# Altium footprint library aiskylab-06IC-03Interface.PcbLib: 31 footprints (part 2 of 2)
Each footprint in its own frame and in the unit in brackets; x right, y up, seen from the top. Pads: shape width x height; smd on the part's side, far side on the other; paste and mask are expansions set on the pad; w line width, h text height; cw(c..) or ccw(c..) is an arc to the next point about the centre after c.
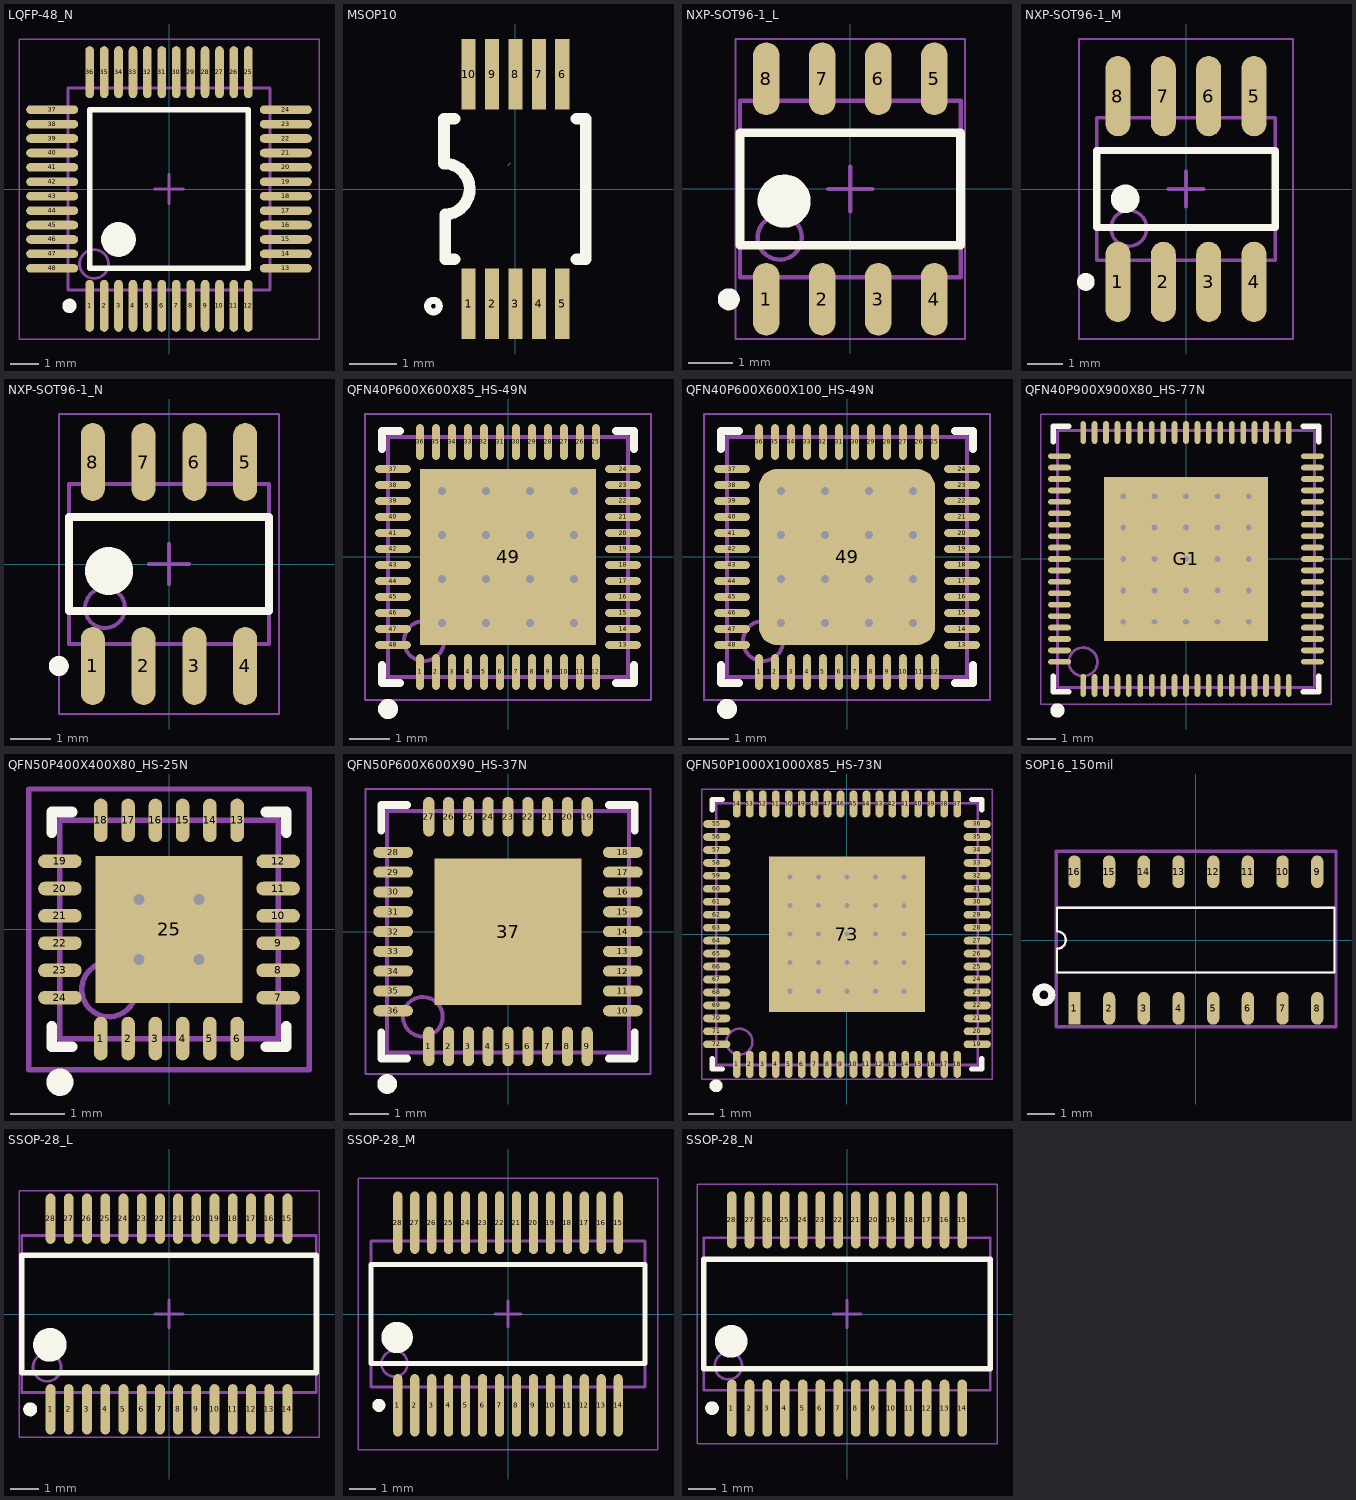
[diagram p1: the footprints below, top view; thin cyan lines are the x and y axes]

## LQFP-48_N [mm] "Thin QFP, 48-Leads, Body 7x7mm, Pitch 0.5mm, IPC Medium Density"
height 1.6
pads (48):
  oval 0.3x1.8 smd: 1(-2.75,-4.05) 2(-2.25,-4.05) 3(-1.75,-4.05) 4(-1.25,-4.05) 5(-0.75,-4.05) 6(-0.25,-4.05) 7(0.25,-4.05) 8(0.75,-4.05) 9(1.25,-4.05) 10(1.75,-4.05) 11(2.25,-4.05) 12(2.75,-4.05) 25(2.75,4.05) 26(2.25,4.05) 27(1.75,4.05) 28(1.25,4.05) 29(0.75,4.05) 30(0.25,4.05) 31(-0.25,4.05) 32(-0.75,4.05) 33(-1.25,4.05) 34(-1.75,4.05) 35(-2.25,4.05) 36(-2.75,4.05)
  oval 1.8x0.3 smd: 13(4.05,-2.75) 14(4.05,-2.25) 15(4.05,-1.75) 16(4.05,-1.25) 17(4.05,-0.75) 18(4.05,-0.25) 19(4.05,0.25) 20(4.05,0.75) 21(4.05,1.25) 22(4.05,1.75) 23(4.05,2.25) 24(4.05,2.75) 37(-4.05,2.75) 38(-4.05,2.25) 39(-4.05,1.75) 40(-4.05,1.25) 41(-4.05,0.75) 42(-4.05,0.25) 43(-4.05,-0.25) 44(-4.05,-0.75) 45(-4.05,-1.25) 46(-4.05,-1.75) 47(-4.05,-2.25) 48(-4.05,-2.75)
Top Overlay:
  circle w0.6: c-1.75,-1.75 r0.3
  circle w0.25: c-3.45,-4.05 r0.125
  lines w0.2: -2.75,-2.75 -2.75,2.75 2.75,2.75 2.75,-2.75 -2.75,-2.75
Top Designator:
  text ".Designator" at -7.618,-0.508 h1.52
Top Assembly:
  circle w0.1: c-2.6,-2.6 r0.5
  lines w0.1: -3.5,-3.5 3.5,-3.5 3.5,3.5 -3.5,3.5 -3.5,-3.5
Top Component Center:
  lines w0.1: -0.5,0 0.5,0 ; 0,-0.5 0,0.5
Top Component Outline:
  lines w0.05: -5.2,-5.2 5.2,-5.2 5.2,5.2 -5.2,5.2 -5.2,-5.2
3D body "LQFP-48-7x7mm.STEP": height 1.55, standoff 0, extent -4.511,-4.51 4.51,4.511

## MSOP10 [mil]
pads (10):
  rect 12x59.06 smd: 1(-39.37,-96.5) 2(-19.68,-96.5) 3(0,-96.5) 4(19.69,-96.5) 5(39.37,-96.5) 6(39.37,96.5) 7(19.69,96.5) 8(0,96.5) 9(-19.68,96.5) 10(-39.37,96.5)
Top Overlay:
  lines w5.91: -68.95,-93.5 ccw(c-68.9,-98.43) -68.85,-93.5
  lines w10: -51.19,-59.05 -59,-59.05 -59,-21.5 ccw(c-59.92,-0.01) -60,21.5 -60,59.05 -51.19,59.05 ; 51.19,-59.05 59.05,-59.05 59.05,59.05 51.19,59.05
Top Designator:
  text ".Designator" at -306.26,-19.99 h60
Bottom 3D Body:
  lines w0.1: -5.88,19.99 -3.88,21.99
3D body: height 59.06, standoff 0, extent -60,-59 61,60

## NXP-SOT96-1_L [mm] "SOIC, 8-Leads, Body 5x4mm, Pitch 1.27mm, IPC High Density"
height 1.75
pads (8):
  oval 0.6x1.65 smd: 1(-1.905,-2.5) 2(-0.635,-2.5) 3(0.635,-2.5) 4(1.905,-2.5) 5(1.905,2.5) 6(0.635,2.5) 7(-0.635,2.5) 8(-1.905,2.5)
Top Overlay:
  circle w0.6: c-1.5,-0.275 r0.3
  circle w0.25: c-2.755,-2.5 r0.125
  lines w0.2: -2.5,-1.275 -2.5,1.275 2.5,1.275 2.5,-1.275 -2.5,-1.275
Top Designator:
  text ".Designator" at -7.808,-0.508 h1.52
Top Assembly:
  circle w0.1: c-1.6,-1.1 r0.5
  lines w0.1: -2.5,-2 -2.5,2 2.5,2 2.5,-2 -2.5,-2
Top Component Center:
  lines w0.1: -0.5,0 0.5,0 ; 0,-0.5 0,0.5
Top Component Outline:
  lines w0.05: -2.6,-3.4 -2.6,3.4 2.6,3.4 2.6,-3.4 -2.6,-3.4
3D body "SO-8.STEP": height 1.5, standoff 0, extent -2.45,-3.014 2.45,3.014

## NXP-SOT96-1_M [mm] "SOIC, 8-Leads, Body 5x4mm, Pitch 1.27mm, IPC Low Density"
height 1.75
pads (8):
  oval 0.7x2.25 smd: 1(-1.905,-2.6) 2(-0.635,-2.6) 3(0.635,-2.6) 4(1.905,-2.6) 5(1.905,2.6) 6(0.635,2.6) 7(-0.635,2.6) 8(-1.905,2.6)
Top Overlay:
  circle w0.4: c-1.7,-0.275 r0.2
  circle w0.25: c-2.805,-2.6 r0.125
  lines w0.2: -2.5,-1.075 -2.5,1.075 2.5,1.075 2.5,-1.075 -2.5,-1.075
Top Designator:
  text ".Designator" at -7.633,-0.508 h1.52
Top Assembly:
  circle w0.1: c-1.6,-1.1 r0.5
  lines w0.1: -2.5,-2 -2.5,2 2.5,2 2.5,-2 -2.5,-2
Top Component Center:
  lines w0.1: -0.5,0 0.5,0 ; 0,-0.5 0,0.5
Top Component Outline:
  lines w0.05: -3,-4.2 -3,4.2 3,4.2 3,-4.2 -3,-4.2
3D body "SO-8.STEP": height 1.5, standoff 0, extent -2.45,-3.014 2.45,3.014

## NXP-SOT96-1_N [mm] "SOIC, 8-Leads, Body 5x4mm, Pitch 1.27mm, IPC Medium Density"
height 1.75
pads (8):
  oval 0.6x1.95 smd: 1(-1.905,-2.55) 2(-0.635,-2.55) 3(0.635,-2.55) 4(1.905,-2.55) 5(1.905,2.55) 6(0.635,2.55) 7(-0.635,2.55) 8(-1.905,2.55)
Top Overlay:
  circle w0.6: c-1.5,-0.175 r0.3
  circle w0.25: c-2.755,-2.55 r0.125
  lines w0.2: -2.5,-1.175 -2.5,1.175 2.5,1.175 2.5,-1.175 -2.5,-1.175
Top Designator:
  text ".Designator" at -7.733,-0.508 h1.52
Top Assembly:
  circle w0.1: c-1.6,-1.1 r0.5
  lines w0.1: -2.5,-2 2.5,-2 2.5,2 -2.5,2 -2.5,-2
Top Component Center:
  lines w0.1: -0.5,0 0.5,0 ; 0,-0.5 0,0.5
Top Component Outline:
  lines w0.05: -2.75,-3.75 2.75,-3.75 2.75,3.75 -2.75,3.75 -2.75,-3.75
3D body "SO-8.STEP": height 1.5, standoff 0, extent -2.45,-3.014 2.45,3.014

## QFN40P600X600X85_HS-49N [mm] "QFN, 48-Leads, Body 6.00x6.00mm, Pitch 0.40mm, Thermal Pad 4.40x4.40mm, IPC Medium Density"
height 0.85
pads (49):
  oval 0.2x0.9 smd: 1(-2.2,-2.875) 2(-1.8,-2.875) 3(-1.4,-2.875) 4(-1,-2.875) 5(-0.6,-2.875) 6(-0.2,-2.875) 7(0.2,-2.875) 8(0.6,-2.875) 9(1,-2.875) 10(1.4,-2.875) 11(1.8,-2.875) 12(2.2,-2.875) 25(2.2,2.875) 26(1.8,2.875) 27(1.4,2.875) 28(1,2.875) 29(0.6,2.875) 30(0.2,2.875) 31(-0.2,2.875) 32(-0.6,2.875) 33(-1,2.875) 34(-1.4,2.875) 35(-1.8,2.875) 36(-2.2,2.875)
  oval 0.9x0.2 smd: 13(2.875,-2.2) 14(2.875,-1.8) 15(2.875,-1.4) 16(2.875,-1) 17(2.875,-0.6) 18(2.875,-0.2) 19(2.875,0.2) 20(2.875,0.6) 21(2.875,1) 22(2.875,1.4) 23(2.875,1.8) 24(2.875,2.2) 37(-2.875,2.2) 38(-2.875,1.8) 39(-2.875,1.4) 40(-2.875,1) 41(-2.875,0.6) 42(-2.875,0.2) 43(-2.875,-0.2) 44(-2.875,-0.6) 45(-2.875,-1) 46(-2.875,-1.4) 47(-2.875,-1.8) 48(-2.875,-2.2)
  rect 4.4x4.4 smd: 49(0,0)
via 1.65,1.65 diameter 0.5 hole 0.2
via 1.65,0.55 diameter 0.5 hole 0.2
via 1.65,-0.55 diameter 0.5 hole 0.2
via 1.65,-1.65 diameter 0.5 hole 0.2
via 0.55,1.65 diameter 0.5 hole 0.2
via 0.55,0.55 diameter 0.5 hole 0.2
via 0.55,-0.55 diameter 0.5 hole 0.2
via 0.55,-1.65 diameter 0.5 hole 0.2
via -0.55,1.65 diameter 0.5 hole 0.2
via -0.55,0.55 diameter 0.5 hole 0.2
via -0.55,-0.55 diameter 0.5 hole 0.2
via -0.55,-1.65 diameter 0.5 hole 0.2
via -1.65,1.65 diameter 0.5 hole 0.2
via -1.65,0.55 diameter 0.5 hole 0.2
via -1.65,-0.55 diameter 0.5 hole 0.2
via -1.65,-1.65 diameter 0.5 hole 0.2
Top Overlay:
  circle w0.25: c-3,-3.8 r0.125
  lines w0.2: -3.15,-2.7 -3.15,-3.15 -2.7,-3.15 ; -3.15,2.7 -3.15,3.15 -2.7,3.15 ; 2.7,-3.15 3.15,-3.15 3.15,-2.7 ; 2.7,3.15 3.15,3.15 3.15,2.7
Top Designator:
  text ".Designator" at -7.618,-0.733 h1.52
Top Assembly:
  circle w0.1: c-2.1,-2.1 r0.5
  lines w0.1: -3,-3 -3,3 3,3 3,-3 -3,-3
Top Component Center:
  lines w0.1: -0.5,0 0.5,0 ; 0,-0.5 0,0.5
Top Component Outline:
  lines w0.05: -3.575,-3.575 3.575,-3.575 3.575,3.575 -3.575,3.575 -3.575,-3.575
3D body "QFN40P600X600X85_HS-49N.step": height 0.85, standoff 0, extent -3.02,-3.02 3.02,3.02

## QFN40P600X600X100_HS-49N [mm] "QFN, 48-Leads, Body 6.00x6.00mm, Pitch 0.40mm, Thermal Pad 4.40x4.40mm, IPC Medium Density"
height 1
pads (49):
  oval 0.2x0.9 smd: 1(-2.2,-2.875) 2(-1.8,-2.875) 3(-1.4,-2.875) 4(-1,-2.875) 5(-0.6,-2.875) 6(-0.2,-2.875) 7(0.2,-2.875) 8(0.6,-2.875) 9(1,-2.875) 10(1.4,-2.875) 11(1.8,-2.875) 12(2.2,-2.875) 25(2.2,2.875) 26(1.8,2.875) 27(1.4,2.875) 28(1,2.875) 29(0.6,2.875) 30(0.2,2.875) 31(-0.2,2.875) 32(-0.6,2.875) 33(-1,2.875) 34(-1.4,2.875) 35(-1.8,2.875) 36(-2.2,2.875)
  oval 0.9x0.2 smd: 13(2.875,-2.2) 14(2.875,-1.8) 15(2.875,-1.4) 16(2.875,-1) 17(2.875,-0.6) 18(2.875,-0.2) 19(2.875,0.2) 20(2.875,0.6) 21(2.875,1) 22(2.875,1.4) 23(2.875,1.8) 24(2.875,2.2) 37(-2.875,2.2) 38(-2.875,1.8) 39(-2.875,1.4) 40(-2.875,1) 41(-2.875,0.6) 42(-2.875,0.2) 43(-2.875,-0.2) 44(-2.875,-0.6) 45(-2.875,-1) 46(-2.875,-1.4) 47(-2.875,-1.8) 48(-2.875,-2.2)
  rrect20% 4.4x4.4 smd: 49(0,0)
via 1.65,1.65 diameter 0.5 hole 0.2
via 1.65,0.55 diameter 0.5 hole 0.2
via 1.65,-0.55 diameter 0.5 hole 0.2
via 1.65,-1.65 diameter 0.5 hole 0.2
via 0.55,1.65 diameter 0.5 hole 0.2
via 0.55,0.55 diameter 0.5 hole 0.2
via 0.55,-0.55 diameter 0.5 hole 0.2
via 0.55,-1.65 diameter 0.5 hole 0.2
via -0.55,1.65 diameter 0.5 hole 0.2
via -0.55,0.55 diameter 0.5 hole 0.2
via -0.55,-0.55 diameter 0.5 hole 0.2
via -0.55,-1.65 diameter 0.5 hole 0.2
via -1.65,1.65 diameter 0.5 hole 0.2
via -1.65,0.55 diameter 0.5 hole 0.2
via -1.65,-0.55 diameter 0.5 hole 0.2
via -1.65,-1.65 diameter 0.5 hole 0.2
Top Overlay:
  circle w0.25: c-3,-3.8 r0.125
  lines w0.2: -3.15,-2.7 -3.15,-3.15 -2.7,-3.15 ; -3.15,2.7 -3.15,3.15 -2.7,3.15 ; 2.7,-3.15 3.15,-3.15 3.15,-2.7 ; 2.7,3.15 3.15,3.15 3.15,2.7
Top Designator:
  text ".Designator" at -7.618,-0.733 h1.52
Top Assembly:
  circle w0.1: c-2.1,-2.1 r0.5
  lines w0.1: -3,-3 -3,3 3,3 3,-3 -3,-3
Top Component Center:
  lines w0.1: -0.5,0 0.5,0 ; 0,-0.5 0,0.5
Top Component Outline:
  lines w0.05: -3.575,-3.575 -3.575,3.575 3.575,3.575 3.575,-3.575 -3.575,-3.575
3D body "QFN40P600X600X100_HS-49N.step": height 1, standoff 0, extent -3.02,-3.02 3.02,3.02

## QFN40P900X900X80_HS-77N [mm] "QFN, 76-Leads, Body 9.00x9.00mm, Pitch 0.40mm, Thermal Pad 5.75x5.75mm, IPC Medium Density"
height 0.8
pads (77):
  oval 0.2x0.8 smd: 1(-3.6,-4.425) 2(-3.2,-4.425) 3(-2.8,-4.425) 4(-2.4,-4.425) 5(-2,-4.425) 6(-1.6,-4.425) 7(-1.2,-4.425) 8(-0.8,-4.425) 9(-0.4,-4.425) 10(0,-4.425) 11(0.4,-4.425) 12(0.8,-4.425) 13(1.2,-4.425) 14(1.6,-4.425) 15(2,-4.425) 16(2.4,-4.425) 17(2.8,-4.425) 18(3.2,-4.425) 19(3.6,-4.425) 39(3.6,4.425) 40(3.2,4.425) 41(2.8,4.425) 42(2.4,4.425) 43(2,4.425) 44(1.6,4.425) 45(1.2,4.425) 46(0.8,4.425) 47(0.4,4.425) 48(0,4.425) 49(-0.4,4.425) 50(-0.8,4.425) 51(-1.2,4.425) 52(-1.6,4.425) 53(-2,4.425) 54(-2.4,4.425) 55(-2.8,4.425) 56(-3.2,4.425) 57(-3.6,4.425)
  oval 0.8x0.2 smd: 20(4.425,-3.6) 21(4.425,-3.2) 22(4.425,-2.8) 23(4.425,-2.4) 24(4.425,-2) 25(4.425,-1.6) 26(4.425,-1.2) 27(4.425,-0.8) 28(4.425,-0.4) 29(4.425,0) 30(4.425,0.4) 31(4.425,0.8) 32(4.425,1.2) 33(4.425,1.6) 34(4.425,2) 35(4.425,2.4) 36(4.425,2.8) 37(4.425,3.2) 38(4.425,3.6) 58(-4.425,3.6) 59(-4.425,3.2) 60(-4.425,2.8) 61(-4.425,2.4) 62(-4.425,2) 63(-4.425,1.6) 64(-4.425,1.2) 65(-4.425,0.8) 66(-4.425,0.4) 67(-4.425,0) 68(-4.425,-0.4) 69(-4.425,-0.8) 70(-4.425,-1.2) 71(-4.425,-1.6) 72(-4.425,-2) 73(-4.425,-2.4) 74(-4.425,-2.8) 75(-4.425,-3.2) 76(-4.425,-3.6)
  rect 5.75x5.75 smd: G1(0,0)
via -2.2,-2.2 diameter 0.5 hole 0.2
via -2.2,-1.1 diameter 0.5 hole 0.2
via -2.2,0 diameter 0.5 hole 0.2
via -2.2,1.1 diameter 0.5 hole 0.2
via -2.2,2.2 diameter 0.5 hole 0.2
via -1.1,-2.2 diameter 0.5 hole 0.2
via -1.1,-1.1 diameter 0.5 hole 0.2
via -1.1,0 diameter 0.5 hole 0.2
via -1.1,1.1 diameter 0.5 hole 0.2
via -1.1,2.2 diameter 0.5 hole 0.2
via 0,-2.2 diameter 0.5 hole 0.2
via 0,-1.1 diameter 0.5 hole 0.2
via 0,0 diameter 0.5 hole 0.2
via 0,1.1 diameter 0.5 hole 0.2
via 0,2.2 diameter 0.5 hole 0.2
via 1.1,-2.2 diameter 0.5 hole 0.2
via 1.1,-1.1 diameter 0.5 hole 0.2
via 1.1,0 diameter 0.5 hole 0.2
via 1.1,1.1 diameter 0.5 hole 0.2
via 1.1,2.2 diameter 0.5 hole 0.2
via 2.2,-2.2 diameter 0.5 hole 0.2
via 2.2,-1.1 diameter 0.5 hole 0.2
via 2.2,0 diameter 0.5 hole 0.2
via 2.2,1.1 diameter 0.5 hole 0.2
via 2.2,2.2 diameter 0.5 hole 0.2
Top Overlay:
  circle w0.25: c-4.5,-5.3 r0.125
  lines w0.2: -4.65,-4.1 -4.65,-4.65 -4.1,-4.65 ; -4.65,4.1 -4.65,4.65 -4.1,4.65 ; 4.1,-4.65 4.65,-4.65 4.65,-4.1 ; 4.1,4.65 4.65,4.65 4.65,4.1
Top Designator:
  text ".Designator" at -7.618,-0.733 h1.52
Top Assembly:
  circle w0.1: c-3.6,-3.6 r0.5
  lines w0.1: -4.5,-4.5 -4.5,4.5 4.5,4.5 4.5,-4.5 -4.5,-4.5
Top Component Center:
  lines w0.1: -0.5,0 0.5,0 ; 0,-0.5 0,0.5
Top Component Outline:
  lines w0.05: -5.075,-5.075 -5.075,5.075 5.075,5.075 5.075,-5.075 -5.075,-5.075
Top 3D Body:
  circle w0.1: c-3.6,-3.6 r0.5
  lines w0.1: -4.5,-4.5 -4.5,4.5 4.5,4.5 4.5,-4.5 -4.5,-4.5
3D body "QFN40P900X900X80_HS-77N.step": height 0.8, standoff 0, extent -4.535,-4.535 4.535,4.535

## QFN50P400X400X80_HS-25N [mm] "QFN, 24-Leads, Body 4.00x4.00mm, Pitch 0.50mm, Thermal Pad 2.70x2.70mm, IPC Medium Density"
height 0.8
pads (25):
  oval 0.25x0.8 smd: 1(-1.25,-2) 2(-0.75,-2) 3(-0.25,-2) 4(0.25,-2) 5(0.75,-2) 6(1.25,-2) 13(1.25,2) 14(0.75,2) 15(0.25,2) 16(-0.25,2) 17(-0.75,2) 18(-1.25,2)
  oval 0.8x0.25 smd: 7(2,-1.25) 8(2,-0.75) 9(2,-0.25) 10(2,0.25) 11(2,0.75) 12(2,1.25) 19(-2,1.25) 20(-2,0.75) 21(-2,0.25) 22(-2,-0.25) 23(-2,-0.75) 24(-2,-1.25)
  rect 2.7x2.7 smd: 25(0,0)
via 0.55,0.55 diameter 0.5 hole 0.2
via 0.55,-0.55 diameter 0.5 hole 0.2
via -0.55,0.55 diameter 0.5 hole 0.2
via -0.55,-0.55 diameter 0.5 hole 0.2
Top Overlay:
  circle w0.25: c-2,-2.8 r0.125
  lines w0.2: -2.15,-1.775 -2.15,-2.15 -1.775,-2.15 ; -2.15,1.775 -2.15,2.15 -1.775,2.15 ; 1.775,-2.15 2.15,-2.15 2.15,-1.775 ; 1.775,2.15 2.15,2.15 2.15,1.775
Top Designator:
  text ".Designator" at -7.618,-0.72 h1.52
Top Assembly:
  circle w0.1: c-1.1,-1.1 r0.5
  lines w0.1: -2,-2 2,-2 2,2 -2,2 -2,-2
Top Component Center:
  lines w0.1: -0.5,0 0.5,0 -0.5,0 ; 0,-0.5 0,0.5 0,-0.5
Top Component Outline:
  lines w0.05: -2.575,-2.575 -2.575,2.575 2.575,2.575 2.575,-2.575 -2.575,-2.575
Top 3D Body:
  circle w0.1: c-1.1,-1.1 r0.5
  lines w0.1: -2.575,-2.575 2.575,-2.575 2.575,2.575 -2.575,2.575 -2.575,-2.575 ; -2,-2 2,-2 2,2 -2,2 -2,-2
3D body "QFN50P400X400X80_HS-25N.step": height 0.8, standoff 0, extent -2.01,-2.01 2.01,2.01

## QFN50P600X600X90_HS-37N [mm]
pads (37):
  oval 0.28x1 smd: 1(-2,-2.9) 2(-1.5,-2.9) 3(-1,-2.9) 4(-0.5,-2.9) 5(0,-2.9) 6(0.5,-2.9) 7(1,-2.9) 8(1.5,-2.9) 9(2,-2.9) 19(2,2.9) 20(1.5,2.9) 21(1,2.9) 22(0.5,2.9) 23(0,2.9) 24(-0.5,2.9) 25(-1,2.9) 26(-1.5,2.9) 27(-2,2.9)
  oval 1x0.28 smd: 10(2.9,-2) 11(2.9,-1.5) 12(2.9,-1) 13(2.9,-0.5) 14(2.9,0) 15(2.9,0.5) 16(2.9,1) 17(2.9,1.5) 18(2.9,2) 28(-2.9,2) 29(-2.9,1.5) 30(-2.9,1) 31(-2.9,0.5) 32(-2.9,0) 33(-2.9,-0.5) 34(-2.9,-1) 35(-2.9,-1.5) 36(-2.9,-2)
  rect 3.7x3.7 smd: 37(0,0)
Top Overlay:
  circle w0.25: c-3.05,-3.85 r0.125
  lines w0.2: -3.2,-2.55 -3.2,-3.2 -2.55,-3.2 ; -3.2,2.55 -3.2,3.2 -2.55,3.2 ; 2.55,-3.2 3.2,-3.2 3.2,-2.55 ; 2.55,3.2 3.2,3.2 3.2,2.55
Top Designator:
  text ".Designator" at -7.618,-0.745 h1.52
Top Assembly:
  circle w0.1: c-2.15,-2.15 r0.5
  lines w0.1: -3.05,-3.05 3.05,-3.05 3.05,3.05 -3.05,3.05 -3.05,-3.05
Top Component Outline:
  lines w0.05: -3.6,-3.6 3.6,-3.6 3.6,3.6 -3.6,3.6 -3.6,-3.6
3D body "QFN50P600X600X90_HS-37N.step": height 0.9, standoff 0, extent -3.13,-3.13 3.13,3.13

## QFN50P1000X1000X85_HS-73N [mm] "QFN, 72-Leads, Body 10.00x10.00mm, Pitch 0.50mm, Thermal Pad 6.00x6.00mm, IPC Medium Density"
height 0.85
pads (73):
  oval 0.3x1.05 smd: 1(-4.25,-5.025) 2(-3.75,-5.025) 3(-3.25,-5.025) 4(-2.75,-5.025) 5(-2.25,-5.025) 6(-1.75,-5.025) 7(-1.25,-5.025) 8(-0.75,-5.025) 9(-0.25,-5.025) 10(0.25,-5.025) 11(0.75,-5.025) 12(1.25,-5.025) 13(1.75,-5.025) 14(2.25,-5.025) 15(2.75,-5.025) 16(3.25,-5.025) 17(3.75,-5.025) 18(4.25,-5.025) 37(4.25,5.025) 38(3.75,5.025) 39(3.25,5.025) 40(2.75,5.025) 41(2.25,5.025) 42(1.75,5.025) 43(1.25,5.025) 44(0.75,5.025) 45(0.25,5.025) 46(-0.25,5.025) 47(-0.75,5.025) 48(-1.25,5.025) 49(-1.75,5.025) 50(-2.25,5.025) 51(-2.75,5.025) 52(-3.25,5.025) 53(-3.75,5.025) 54(-4.25,5.025)
  oval 1.05x0.3 smd: 19(5.025,-4.25) 20(5.025,-3.75) 21(5.025,-3.25) 22(5.025,-2.75) 23(5.025,-2.25) 24(5.025,-1.75) 25(5.025,-1.25) 26(5.025,-0.75) 27(5.025,-0.25) 28(5.025,0.25) 29(5.025,0.75) 30(5.025,1.25) 31(5.025,1.75) 32(5.025,2.25) 33(5.025,2.75) 34(5.025,3.25) 35(5.025,3.75) 36(5.025,4.25) 55(-5.025,4.25) 56(-5.025,3.75) 57(-5.025,3.25) 58(-5.025,2.75) 59(-5.025,2.25) 60(-5.025,1.75) 61(-5.025,1.25) 62(-5.025,0.75) 63(-5.025,0.25) 64(-5.025,-0.25) 65(-5.025,-0.75) 66(-5.025,-1.25) 67(-5.025,-1.75) 68(-5.025,-2.25) 69(-5.025,-2.75) 70(-5.025,-3.25) 71(-5.025,-3.75) 72(-5.025,-4.25)
  rect 6x6 smd: 73(0,0)
via -2.2,-2.2 diameter 0.5 hole 0.2
via -2.2,-1.1 diameter 0.5 hole 0.2
via -2.2,0 diameter 0.5 hole 0.2
via -2.2,1.1 diameter 0.5 hole 0.2
via -2.2,2.2 diameter 0.5 hole 0.2
via -1.1,-2.2 diameter 0.5 hole 0.2
via -1.1,-1.1 diameter 0.5 hole 0.2
via -1.1,0 diameter 0.5 hole 0.2
via -1.1,1.1 diameter 0.5 hole 0.2
via -1.1,2.2 diameter 0.5 hole 0.2
via 0,-2.2 diameter 0.5 hole 0.2
via 0,-1.1 diameter 0.5 hole 0.2
via 0,0 diameter 0.5 hole 0.2
via 0,1.1 diameter 0.5 hole 0.2
via 0,2.2 diameter 0.5 hole 0.2
via 1.1,-2.2 diameter 0.5 hole 0.2
via 1.1,-1.1 diameter 0.5 hole 0.2
via 1.1,0 diameter 0.5 hole 0.2
via 1.1,1.1 diameter 0.5 hole 0.2
via 1.1,2.2 diameter 0.5 hole 0.2
via 2.2,-2.2 diameter 0.5 hole 0.2
via 2.2,-1.1 diameter 0.5 hole 0.2
via 2.2,0 diameter 0.5 hole 0.2
via 2.2,1.1 diameter 0.5 hole 0.2
via 2.2,2.2 diameter 0.5 hole 0.2
Top Overlay:
  circle w0.25: c-5.05,-5.85 r0.125
  lines w0.2: -5.2,-4.8 -5.2,-5.2 -4.8,-5.2 ; -5.2,4.8 -5.2,5.2 -4.8,5.2 ; 4.8,-5.2 5.2,-5.2 5.2,-4.8 ; 4.8,5.2 5.2,5.2 5.2,4.8
Top Designator:
  text ".Designator" at -7.618,-0.732 h1.52
Top Assembly:
  circle w0.1: c-4.15,-4.15 r0.5
  lines w0.1: -5.05,-5.05 -5.05,5.05 5.05,5.05 5.05,-5.05 -5.05,-5.05
Top Component Center:
  lines w0.1: -0.5,0 0.5,0 ; 0,-0.5 0,0.5
Top Component Outline:
  lines w0.05: -5.6,-5.6 5.6,-5.6 5.6,5.6 -5.6,5.6 -5.6,-5.6
Top 3D Body:
  circle w0.1: c-4.15,-4.15 r0.5
  lines w0.1: -5.05,-5.05 -5.05,5.05 5.05,5.05 5.05,-5.05 -5.05,-5.05
Bottom 3D Body:
  lines w0.05: -5.6,-5.6 5.6,-5.6 5.6,5.6 -5.6,5.6 -5.6,-5.6
  lines w0.1: -0.5,0 0.5,0 ; 0,-0.5 0,0.5
3D body "QFN50P1000X1000X85_HS-73N.step": height 0.85, standoff 0, extent -5.07,-5.07 5.07,5.07

## SOP16_150mil [mm]
pads (16):
  rect 0.45x1.2 smd: 1(-4.445,-2.5)
  oval 0.45x1.2 smd: 2(-3.175,-2.5) 3(-1.905,-2.5) 4(-0.635,-2.5) 5(0.635,-2.5) 6(1.905,-2.5) 7(3.175,-2.5) 8(4.445,-2.5) 9(4.445,2.5) 10(3.175,2.5) 11(1.905,2.5) 12(0.635,2.5) 13(-0.635,2.5) 14(-1.905,2.5) 15(-3.175,2.5) 16(-4.445,2.5)
Top Overlay:
  circle w0.254: c-5.563,-2.007 r0.29
  lines w0.08: -5.08,-1.185 -5.08,-0.318 ccw(c-5.08,0) -5.08,0.318 -5.08,1.185 5.08,1.185 5.08,-1.185 -5.08,-1.185
Top Designator:
  text ".Designator" at -8.01,-0.47 h1.52
Top Assembly:
  circle w0.254: c-5.563,-2.007 r0.29
  lines w0.08: -5.08,-1.185 -5.08,-0.318 ccw(c-5.08,0) -5.08,0.318 -5.08,1.185 5.08,1.185 5.08,-1.185 -5.08,-1.185
Top Component Outline:
  lines w0.127: -5.105,-3.175 -5.105,3.251 5.131,3.251 5.131,-3.175 -5.105,-3.175
Top 3D Body:
  lines w0.127: -5.105,-3.175 -5.105,3.251 5.131,3.251 5.131,-3.175 -5.105,-3.175
3D body "User Library-SOP16.step": height 1.59, standoff 0, extent -4.99,-3.077 4.991,3.158

## SSOP-28_L [mm] "SOP, 28-Leads, Body 10.2x5.3mm, Pitch 0.65mm, IPC High Density"
height 2
pads (28):
  oval 0.35x1.8 smd: 1(-4.225,-3.4) 2(-3.575,-3.4) 3(-2.925,-3.4) 4(-2.275,-3.4) 5(-1.625,-3.4) 6(-0.975,-3.4) 7(-0.325,-3.4) 8(0.325,-3.4) 9(0.975,-3.4) 10(1.625,-3.4) 11(2.275,-3.4) 12(2.925,-3.4) 13(3.575,-3.4) 14(4.225,-3.4) 15(4.225,3.4) 16(3.575,3.4) 17(2.925,3.4) 18(2.275,3.4) 19(1.625,3.4) 20(0.975,3.4) 21(0.325,3.4) 22(-0.325,3.4) 23(-0.975,3.4) 24(-1.625,3.4) 25(-2.275,3.4) 26(-2.925,3.4) 27(-3.575,3.4) 28(-4.225,3.4)
Top Overlay:
  circle w0.6: c-4.25,-1.1 r0.3
  circle w0.25: c-4.95,-3.4 r0.125
  lines w0.2: -5.25,-2.1 -5.25,2.1 5.25,2.1 5.25,-2.1 -5.25,-2.1
Top Designator:
  text ".Designator" at -7.618,-0.508 h1.52
Top Assembly:
  circle w0.1: c-4.35,-1.9 r0.5
  lines w0.1: -5.25,-2.8 5.25,-2.8 5.25,2.8 -5.25,2.8 -5.25,-2.8
Top Component Center:
  lines w0.1: -0.5,0 0.5,0 ; 0,-0.5 0,0.5
Top Component Outline:
  lines w0.05: -5.35,-4.4 5.35,-4.4 5.35,4.4 -5.35,4.4 -5.35,-4.4
3D body "HTSSOP28.STEP": height 1.1, standoff 0, extent -4.85,-3.21 4.85,3.211

## SSOP-28_M [mm] "SOP, 28-Leads, Body 10.2x5.3mm, Pitch 0.65mm, IPC Low Density"
height 2
pads (28):
  oval 0.35x2.4 smd: 1(-4.225,-3.5) 2(-3.575,-3.5) 3(-2.925,-3.5) 4(-2.275,-3.5) 5(-1.625,-3.5) 6(-0.975,-3.5) 7(-0.325,-3.5) 8(0.325,-3.5) 9(0.975,-3.5) 10(1.625,-3.5) 11(2.275,-3.5) 12(2.925,-3.5) 13(3.575,-3.5) 14(4.225,-3.5) 15(4.225,3.5) 16(3.575,3.5) 17(2.925,3.5) 18(2.275,3.5) 19(1.625,3.5) 20(0.975,3.5) 21(0.325,3.5) 22(-0.325,3.5) 23(-0.975,3.5) 24(-1.625,3.5) 25(-2.275,3.5) 26(-2.925,3.5) 27(-3.575,3.5) 28(-4.225,3.5)
Top Overlay:
  circle w0.6: c-4.25,-0.9 r0.3
  circle w0.25: c-4.95,-3.5 r0.125
  lines w0.2: -5.25,-1.9 -5.25,1.9 5.25,1.9 5.25,-1.9 -5.25,-1.9
Top Designator:
  text ".Designator" at -7.618,-0.508 h1.52
Top Assembly:
  circle w0.1: c-4.35,-1.9 r0.5
  lines w0.1: -5.25,-2.8 -5.25,2.8 5.25,2.8 5.25,-2.8 -5.25,-2.8
Top Component Center:
  lines w0.1: -0.5,0 0.5,0 ; 0,-0.5 0,0.5
Top Component Outline:
  lines w0.05: -5.75,-5.2 -5.75,5.2 5.75,5.2 5.75,-5.2 -5.75,-5.2
3D body "HTSSOP28.STEP": height 1.1, standoff 0, extent -4.85,-3.21 4.85,3.211

## SSOP-28_N [mm] "SOP, 28-Leads, Body 10.2x5.3mm, Pitch 0.65mm, IPC Medium Density"
height 2
pads (28):
  oval 0.35x2.1 smd: 1(-4.225,-3.45) 2(-3.575,-3.45) 3(-2.925,-3.45) 4(-2.275,-3.45) 5(-1.625,-3.45) 6(-0.975,-3.45) 7(-0.325,-3.45) 8(0.325,-3.45) 9(0.975,-3.45) 10(1.625,-3.45) 11(2.275,-3.45) 12(2.925,-3.45) 13(3.575,-3.45) 14(4.225,-3.45) 15(4.225,3.45) 16(3.575,3.45) 17(2.925,3.45) 18(2.275,3.45) 19(1.625,3.45) 20(0.975,3.45) 21(0.325,3.45) 22(-0.325,3.45) 23(-0.975,3.45) 24(-1.625,3.45) 25(-2.275,3.45) 26(-2.925,3.45) 27(-3.575,3.45) 28(-4.225,3.45)
Top Overlay:
  circle w0.25: c-4.95,-3.45 r0.125
  circle w0.6: c-4.25,-1 r0.3
  lines w0.2: -5.25,-2 5.25,-2 5.25,2 -5.25,2 -5.25,-2
Top Designator:
  text ".Designator" at -7.618,-0.508 h1.52
Top Assembly:
  circle w0.1: c-4.35,-1.9 r0.5
  lines w0.1: -5.25,-2.8 5.25,-2.8 5.25,2.8 -5.25,2.8 -5.25,-2.8
Top Component Center:
  lines w0.1: -0.5,0 0.5,0 ; 0,-0.5 0,0.5
Top Component Outline:
  lines w0.05: -5.5,-4.75 5.5,-4.75 5.5,4.75 -5.5,4.75 -5.5,-4.75
3D body "HTSSOP28.STEP": height 1.1, standoff 0, extent -4.85,-3.21 4.85,3.211